# EAGLE library part MPU-9250 (library Bits_library_eagle)
NC pin 19. 2-6 & 14-17 not internally connected. May be used for PCB trace routing.
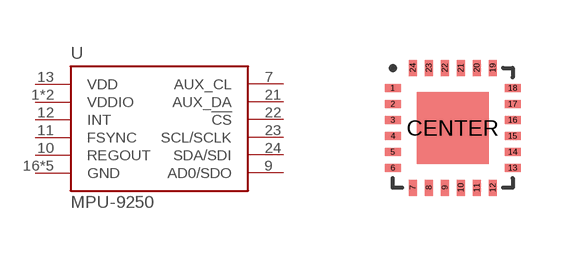
[diagram p13: symbol with the pads of QFN24_PAD; footprint QFN24_PAD]

Designator prefix U

## MPU-9250 (PROD_ID: IC-13192)  [QFN24_PAD]
1  VDDIO
7  AUX_CL
8  VDDIO
9  AD0/SDO
10  REGOUT
11  FSYNC
12  INT
13  VDD
16  GND
17  GND
18  GND
20  GND
21  AUX_DA
22  !CS
23  SCL/SCLK
24  SDA/SDI
CENTER  GND

## Footprint QFN24_PAD (pad centres in mm)
Built for the MPU-9250 using guidelines found in http://cds.linear.com/docs/en/packaging/Carsem%20MLP%20users%20guide.pdf
smd 0.4 x 0.2: 1 -1.5,1; 2 -1.5,0.6; 3 -1.5,0.2; 4 -1.5,-0.2; 5 -1.5,-0.6; 6 -1.5,-1; 13 1.5,-1; 14 1.5,-0.6; 15 1.5,-0.2; 16 1.5,0.2; 17 1.5,0.6; 18 1.5,1
smd 0.2 x 0.4: 7 -1,-1.5; 8 -0.6,-1.5; 9 -0.2,-1.5; 10 0.2,-1.5; 11 0.6,-1.5; 12 1,-1.5; 19 1,1.5; 20 0.6,1.5; 21 0.2,1.5; 22 -0.2,1.5; 23 -0.6,1.5; 24 -1,1.5
smd 1.8 x 1.8: CENTER 0,0